# EAGLE library part FT2232H-56Q (library ftdi)
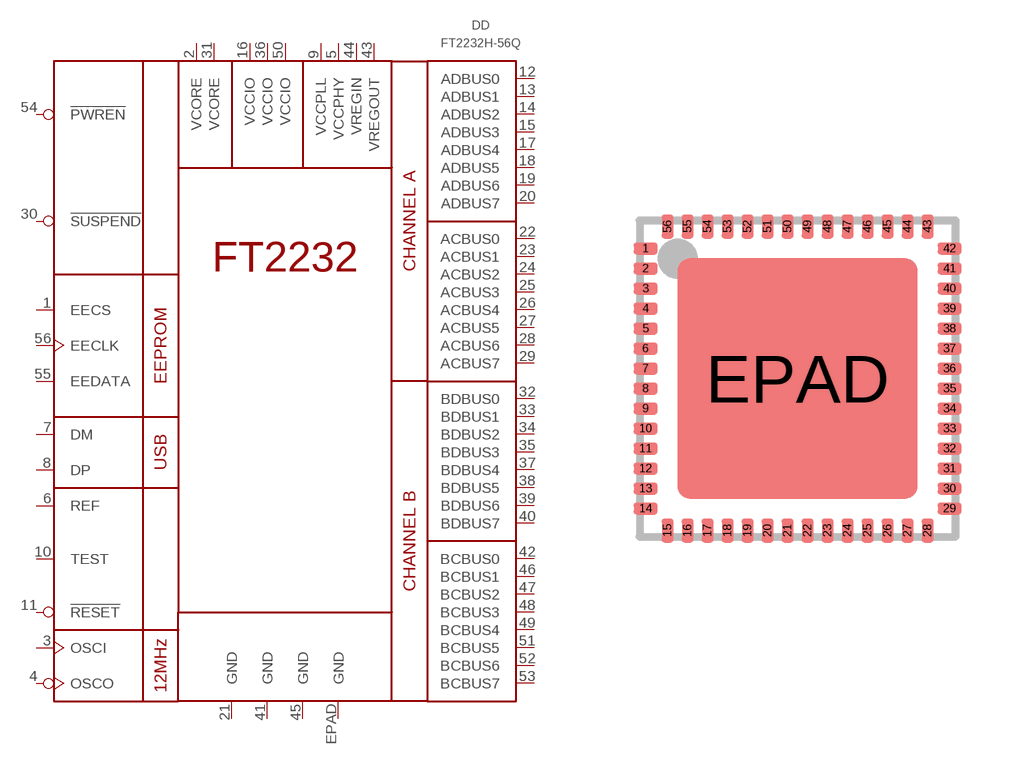
[diagram p1: symbol with the pads of VQFN56; footprint VQFN56]

Designator prefix DD

## FT2232H-56Q  [VQFN56]
1  EECS  out
2  VCORE  pwr
3  OSCI  in
4  OSCO  out
5  VCCPHY  pwr
6  REF  in
7  DM
8  DP
9  VCCPLL  pwr
10  TEST  pwr
11  !RESET  in
12  ADBUS0
13  ADBUS1
14  ADBUS2
15  ADBUS3
16  VCCIO  pwr
17  ADBUS4
18  ADBUS5
19  ADBUS6
20  ADBUS7
21  GND  pwr
22  ACBUS0
23  ACBUS1
24  ACBUS2
25  ACBUS3
26  ACBUS4
27  ACBUS5
28  ACBUS6
29  ACBUS7
30  !SUSPEND  out
31  VCORE  pwr
32  BDBUS0
33  BDBUS1
34  BDBUS2
35  BDBUS3
36  VCCIO  pwr
37  BDBUS4
38  BDBUS5
39  BDBUS6
40  BDBUS7
41  GND  pwr
42  BCBUS0
43  VREGOUT  pwr
44  VREGIN  pwr
45  GND  pwr
46  BCBUS1
47  BCBUS2
48  BCBUS3
49  BCBUS4
50  VCCIO  pwr
51  BCBUS5
52  BCBUS6
53  BCBUS7
54  !PWREN  out
55  EEDATA  in
56  EECLK  out
EPAD  GND  pwr

## Footprint VQFN56 (pad centres in mm)
56-Lead QFN 8 x 8 mm LF56A Source: Source: http://www.cypress.com .. cy7c68013a_5.pdf
smd 0.6 x 0.3: 1 -3.8,3.25; 2 -3.8,2.75; 3 -3.8,2.25; 4 -3.8,1.75; 5 -3.8,1.25; 6 -3.8,0.75; 7 -3.8,0.25; 8 -3.8,-0.25; 9 -3.8,-0.75; 10 -3.8,-1.25; 11 -3.8,-1.75; 12 -3.8,-2.25; 13 -3.8,-2.75; 14 -3.8,-3.25; 29 3.8,-3.25; 30 3.8,-2.75; 31 3.8,-2.25; 32 3.8,-1.75; 33 3.8,-1.25; 34 3.8,-0.75; 35 3.8,-0.25; 36 3.8,0.25; 37 3.8,0.75; 38 3.8,1.25; 39 3.8,1.75; 40 3.8,2.25; 41 3.8,2.75; 42 3.8,3.25
smd 0.3 x 0.6: 15 -3.25,-3.8; 16 -2.75,-3.8; 17 -2.25,-3.8; 18 -1.75,-3.8; 19 -1.25,-3.8; 20 -0.75,-3.8; 21 -0.25,-3.8; 22 0.25,-3.8; 23 0.75,-3.8; 24 1.25,-3.8; 25 1.75,-3.8; 26 2.25,-3.8; 27 2.75,-3.8; 28 3.25,-3.8; 43 3.25,3.8; 44 2.75,3.8; 45 2.25,3.8; 46 1.75,3.8; 47 1.25,3.8; 48 0.75,3.8; 49 0.25,3.8; 50 -0.25,3.8; 51 -0.75,3.8; 52 -1.25,3.8; 53 -1.75,3.8; 54 -2.25,3.8; 55 -2.75,3.8; 56 -3.25,3.8
smd 6 x 6: EPAD 0,0